# EAGLE library part 5650090-7 (library 5650090-7)
TE 5650090-7
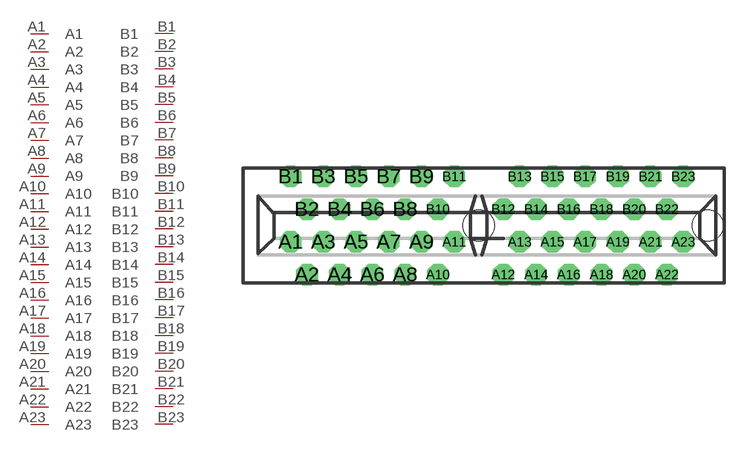
[diagram p0: symbol with the pads of 5650090-7; footprint 5650090-7]

Designator prefix -

## 5650090-7  [5650090-7]
A1  A1
A2  A2
A3  A3
A4  A4
A5  A5
A6  A6
A7  A7
A8  A8
A9  A9
A10  A10
A11  A11
A12  A12
A13  A13
A14  A14
A15  A15
A16  A16
A17  A17
A18  A18
A19  A19
A20  A20
A21  A21
A22  A22
A23  A23
B1  B1
B2  B2
B3  B3
B4  B4
B5  B5
B6  B6
B7  B7
B8  B8
B9  B9
B10  B10
B11  B11
B12  B12
B13  B13
B14  B14
B15  B15
B16  B16
B17  B17
B18  B18
B19  B19
B20  B20
B21  B21
B22  B22
B23  B23

## Footprint 5650090-7 (pad centres in mm)
TE 5650090-7, card edge connector dual position 23 pin
drill 1.016 pad 1.676 octagon: A1 3.683,-1.27; A2 4.953,-3.81; A3 6.223,-1.27; A4 7.493,-3.81; A5 8.763,-1.27; A6 10.033,-3.81; A7 11.303,-1.27; A8 12.573,-3.81; A9 13.843,-1.27; A10 15.113,-3.81; A11 16.383,-1.27; A12 20.193,-3.81; A13 21.463,-1.27; A14 22.733,-3.81; A15 24.003,-1.27; A16 25.273,-3.81; A17 26.543,-1.27; A18 27.813,-3.81; A19 29.083,-1.27; A20 30.353,-3.81; A21 31.623,-1.27; A22 32.893,-3.81; A23 34.163,-1.27; B1 3.683,3.81; B2 4.953,1.27; B3 6.223,3.81; B4 7.493,1.27; B5 8.763,3.81; B6 10.033,1.27; B7 11.303,3.81; B8 12.573,1.27; B9 13.843,3.81; B10 15.113,1.27; B11 16.383,3.81; B12 20.193,1.27; B13 21.463,3.81; B14 22.733,1.27; B15 24.003,3.81; B16 25.273,1.27; B17 26.543,3.81; B18 27.813,1.27; B19 29.083,3.81; B20 30.353,1.27; B21 31.623,3.81; B22 32.893,1.27; B23 34.163,3.81
hole 2.438 at 18.288,0
hole 2.438 at 36.068,0